# Altium footprint library PCB_Library_UART-USB.PcbLib: 9 footprints
Each footprint in its own frame and in the unit in brackets; x right, y up, seen from the top. Pads: shape width x height; smd on the part's side, far side on the other; paste and mask are expansions set on the pad; w line width, h text height; cw(c..) or ccw(c..) is an arc to the next point about the centre after c.
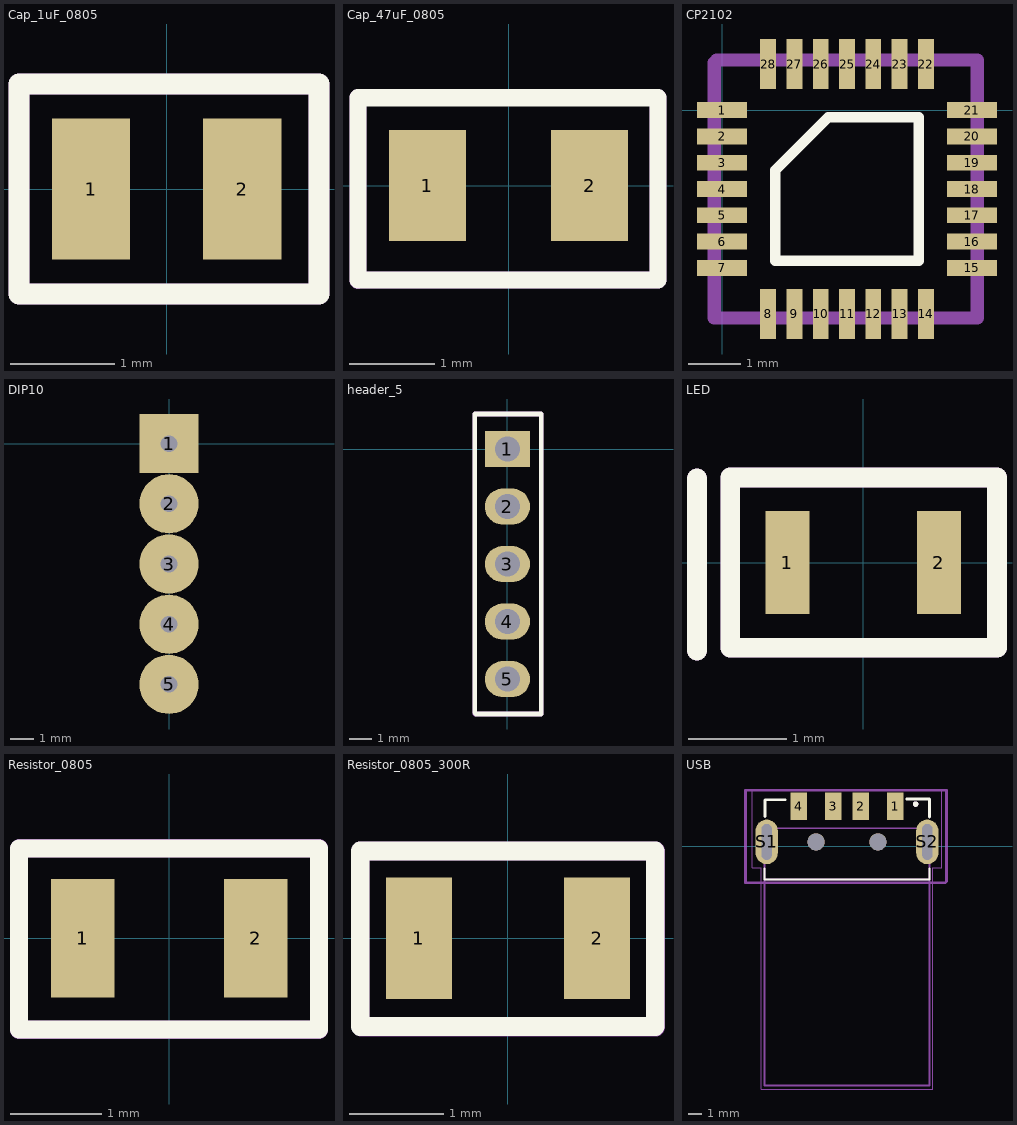
[diagram p0: the footprints below, top view; thin cyan lines are the x and y axes]

## Cap_1uF_0805 [mm]
pads (2):
  rect 0.75x1.35 smd: 1(-0.725,0) 2(0.725,0)
Top Overlay:
  lines w0.2: -1.415,-1.008 1.46,-1.008 1.46,1.008 -1.415,1.008 -1.415,-1.008
Mechanical 2:
  lines w0.2: -1.416,0.787 -1.416,1.008 1.461,1.008 1.461,-1.008 -1.416,-1.008 -1.416,0.898
  text ".Designator" at -0.79,-0.385 h1
3D body "CC0805KKX7R9BB105.stp": height 1.45, standoff 0, extent -1.01,-0.63 0.99,0.62

## Cap_47uF_0805 [mm]
pads (2):
  rect 0.9x1.3 smd: 1(-0.95,0) 2(0.95,0)
Top Overlay:
  lines w0.2: -1.763,-1.108 1.75,-1.108 1.75,1.029 -1.763,1.029 -1.763,-1.108
Mechanical 2:
  lines w0.2: -1.762,-1.11 -1.762,1.03 -1.757,1.03 1.749,1.03 1.751,1.028 1.751,-1.105 1.748,-1.108 -1.76,-1.108 -1.762,-1.11
  text ".Designator" at -0.874,-0.314 h1
3D body "C2012X5R1A476M125AC.stp": height 1.45, standoff 0, extent -1.038,-0.614 0.962,0.636

## CP2102 [mm]
pads (28):
  rect 0.95x0.3 smd: 1(0,0) 2(0,-0.5) 3(0,-1) 4(0,-1.5) 5(0,-2) 6(0,-2.5) 7(0,-3) 15(4.75,-3) 16(4.75,-2.5) 17(4.75,-2) 18(4.75,-1.5) 19(4.75,-1) 20(4.75,-0.5) 21(4.75,0)
  rect 0.3x0.95 smd: 8(0.875,-3.875) 9(1.375,-3.875) 10(1.875,-3.875) 11(2.375,-3.875) 12(2.875,-3.875) 13(3.375,-3.875) 14(3.875,-3.875) 22(3.875,0.875) 23(3.375,0.875) 24(2.875,0.875) 25(2.375,0.875) 26(1.875,0.875) 27(1.375,0.875) 28(0.875,0.875)
Top Overlay:
  lines w0.2: 1.01,-2.865 3.74,-2.865 3.74,-0.135 2.02,-0.135 1.01,-1.145 1.01,-2.865
Mechanical 2:
  lines w0.254: -0.15,-3.95 -0.15,0.9 -0.1,0.95 4.85,0.95 4.85,-3.95 -0.15,-3.95
  text ".Designator" at 1.204,-1.388 h1.52
3D body "cp2102n-a01-gqfn28.stp": height 0.75, standoff 0, extent -0.126,-4.021 4.894,0.999

## DIP10 [mm]
pads (5):
  rect 2.5x2.5 / inner rect 1.2x1.2 / far side rect 2.5x2.5 hole 0.7: 1(0,0)
  round 2.5 / inner round 1.2 / far side round 2.5 hole 0.7: 2(0,-2.54) 3(0,-5.08) 4(0,-7.62) 5(0,-10.16)

## header_5 [mm]
pads (5):
  rect 2x1.6 hole 1.1: 1(0,0)
  oval 2x1.6 hole 1.1: 2(0,-2.54) 3(0,-5.08) 4(0,-7.62) 5(0,-10.16)
Top Overlay:
  lines w0.2: -1.45,-11.65 -1.4,-11.7 1.5,-11.7 1.5,1.45 1.5,1.55 -1.25,1.55 -1.45,1.55 -1.45,1.45 -1.45,-11.65
Mechanical 2:
  lines w0.2: -1.45,-11.7 -1.45,1.55 1.5,1.55 1.5,-11.7 -1.45,-11.7
  text ".Designator" at 0.217,-9.9 h1
3D body "User Library-Header_Male_RA_Low_5Pin.STEP": height 2.5, standoff -3.01, extent -9.78,-11.5 0.35,1.2

## LED [mm]
pads (2):
  rect 0.45x1.05 smd: 1(-0.775,0) 2(0.775,0)
Top Overlay:
  lines w0.2: -1.7,-0.9 -1.7,0.86 ; -1.36,-0.87 -1.36,0.87 1.37,0.87 1.37,-0.87 -1.36,-0.87
Mechanical 2:
  lines w0.2: -1.7,-0.9 -1.7,0.86 ; -1.36,-0.87 1.37,-0.87 1.37,0.87 -1.36,0.87 -1.36,-0.87
  text ".Designator" at -0.65,-0.367 h1
3D body: height 0.9, standoff 0.1, extent -0.282,-0.164 0.282,0.155
3D body "User Library-LTST-C190GKT.STEP": height 0.9, standoff 0, extent -0.84,-0.455 0.86,0.445
3D body: height 0.9, standoff 0, extent 0.325,-1.625 0.325,-1.625

## Resistor_0805 [mm]
pads (2):
  rect 0.7x1.3 smd: 1(-0.95,0) 2(0.95,0)
Top Overlay:
  lines w0.2: -1.65,-1.003 -1.65,0.988 1.645,0.988 1.645,-1.003 -1.65,-1.003
Mechanical 2:
  lines w0.2: -1.65,-1.005 -1.65,-1.005 ; -1.65,-1.005 1.645,-1.005 1.645,0.99 -1.645,0.99 -1.65,0.985 -1.65,-1.005
  text ".Designator" at -0.055,-0.252 h1
3D body "User Library-ERJ-S6QJR47V.STEP": height 0.53, standoff -0.02, extent -1,-0.625 1,0.625

## Resistor_0805_300R [mm]
pads (2):
  rect 0.7x1.3 smd: 1(-0.95,0) 2(0.95,0)
Top Overlay:
  lines w0.2: -1.575,-0.94 -1.575,0.93 1.57,0.93 1.57,-0.94 -1.575,-0.94
Mechanical 2:
  lines w0.2: -1.575,-0.935 -1.575,0.93 1.575,0.93 1.575,-0.945 -1.565,-0.945 -1.575,-0.935
  text ".Designator" at -0.165,-0.327 h1
3D body "RC0805JR-07300RL.STEP": height 0.61, standoff 0.01, extent -1.015,-0.62 0.985,0.63

## USB [mm]
pads (8):
  rect 1.2x2 smd: 1(17.798,2.933) 2(15.298,2.933) 3(13.298,2.933) 4(10.798,2.933)
  oval 1.625x3.25 hole 0.75 slot 2.6 at 90 deg: S1(8.448,0.333) S2(20.148,0.333)
  round 1.25 hole 1.25 unplated: ""(12.048,0.333) ""(16.548,0.333)
Top Overlay:
  circle w0.2: c19.298,3.083 r0.1
  lines w0.127: 8.298,-1.612 8.298,-2.417 20.298,-2.417 20.298,-1.612
  lines w0.2: 8.325,2.175 8.325,3.375 8.35,3.4 9.8,3.4 ; 18.65,3.45 20.3,3.45 20.3,2.15
Mechanical 2:
  lines w0.2: 6.9,-2.65 6.9,4.1 21.55,4.1 21.55,-2.55 21.45,-2.65 6.9,-2.65
  text ".Designator" at 10.604,0.412 h1.52
Mechanical 13:
  circle w0.2: c19.298,3.083 r0.1
  lines w0.127: 8.298,-2.417 8.298,-17.417 20.298,-17.417 20.298,-2.417 ; 8.298,-2.417 8.298,1.333 20.298,1.333 20.298,-2.417 ; 8.298,-2.417 20.298,-2.417
  text "PCB EDGE" at 10.798,-2.167 h1.02
Mechanical 15:
  lines w0.05: 7.385,-1.542 8.048,-1.542 8.048,-17.667 20.548,-17.667 20.548,-1.542 21.21,-1.542 21.21,4.183 7.385,4.183 7.385,-1.542
3D body "480372200.stp": height 2.11, standoff -2.39, extent 8.325,-17.45 20.375,3.5